# EAGLE library part RFM69HW-V1.3 (library comp_RFSwitch_v3)
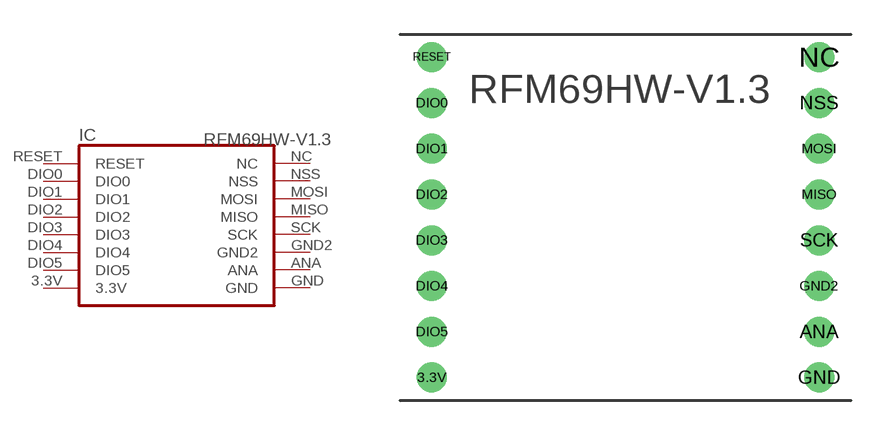
[diagram p8: symbol with the pads of RFM69HW-V1.3; footprint RFM69HW-V1.3]

Designator prefix IC

## RFM69HW-V1.3  [RFM69HW-V1.3]
3.3V  3.3V  pwr
ANA  ANA  in
DIO0  DIO0  pwr
DIO1  DIO1  pwr
DIO2  DIO2  pwr
DIO3  DIO3  pwr
DIO4  DIO4  pwr
DIO5  DIO5  pwr
GND  GND  in
GND2  GND2  out
MISO  MISO  out
MOSI  MOSI  out
NC  NC  out
NSS  NSS  out
RESET  RESET  pwr
SCK  SCK  out

## Footprint RFM69HW-V1.3 (pad centres in mm)
drill 0.8 pad 1.2: 3.3V 1.4,1; ANA 18.3,3; DIO0 1.4,13; DIO1 1.4,11; DIO2 1.4,9; DIO3 1.4,7; DIO4 1.4,5; DIO5 1.4,3; GND 18.3,1; GND2 18.3,5; MISO 18.3,9; MOSI 18.3,11; NC 18.3,15; NSS 18.3,13; RESET 1.4,15; SCK 18.3,7